# Altium schematic symbol library Schlib1.SchLib: 1 symbol
Pins are listed as number, name and electrical type; pins without a type are passive.

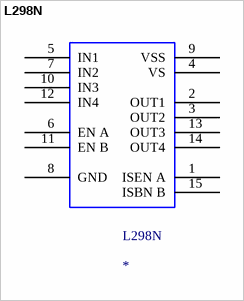
[diagram p0: symbol L298N]

## L298N
designator L298N
pins: 1 ISEN A, 2 OUT1, 3 OUT2, 4 VS, 5 IN1, 6 EN A, 7 IN2, 8 GND, 9 VSS, 10 IN3, 11 EN B, 12 IN4, 13 OUT3, 14 OUT4, 15 ISBN B